# EAGLE library part 37204-62A4-004SC (library C8051F300)
37204-62A3-004 mini-clump board mount socket
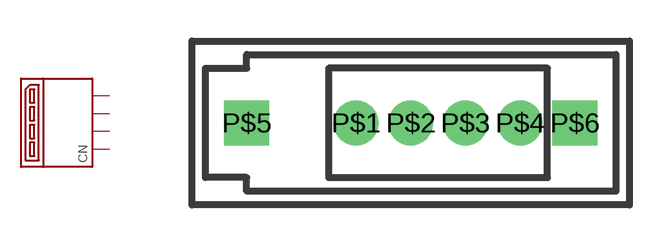
[diagram p4: symbol with the pads of 37204-62A3-004SC; footprint 37204-62A3-004SC]

Designator prefix CN

## 37204-62A4-004SC  [37204-62A3-004SC]
P$1  P$1  pas
P$2  P$2  pas
P$3  P$3  pas
P$4  P$4  pas
P$5  P$6  nc
P$6  P$7  nc

## Footprint 37204-62A3-004SC (pad centres in mm)
drill 1.092 round: P$1 0,0; P$2 2,0; P$3 4,0; P$4 6,0
drill 1.092 square: P$5 -4,0; P$6 8,0